# EAGLE library part MEMORY_3M_SD-RSMT-2-MQ (library MBHP_CORE_STM32F4v1.1.2)
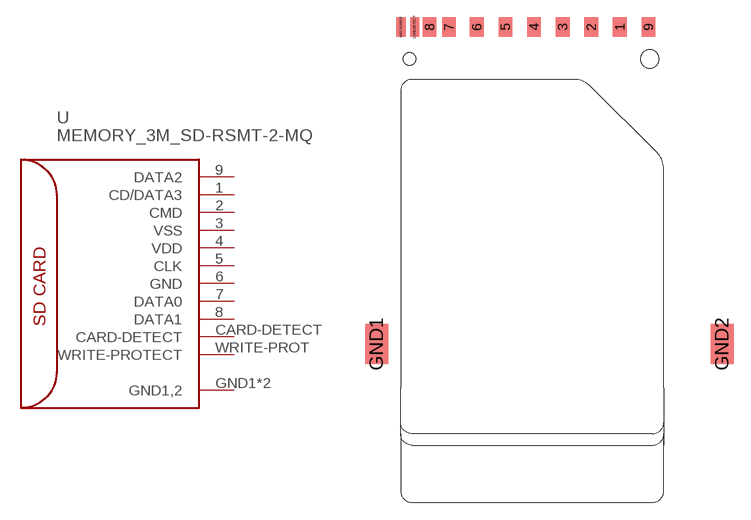
[diagram p5: symbol with the pads of MEMORY_3M_SD-RSMT-2-MQ; footprint MEMORY_3M_SD-RSMT-2-MQ]

Designator prefix -

## MEMORY_3M_SD-RSMT-2-MQ  [MEMORY_3M_SD-RSMT-2-MQ]
1  CD/DATA3
2  CMD
3  VSS
4  VDD
5  CLK
6  GND
7  DATA0
8  DATA1
9  DATA2
CARD-DETECT  CARD-DETECT
GND1  GND1,2
GND2  GND1,2
WRITE-PROT  WRITE-PROTECT

## Footprint MEMORY_3M_SD-RSMT-2-MQ (pad centres in mm)
smd 1.2 x 1.7: 1 22.16,31.6; 2 19.66,31.6; 3 17.16,31.6; 4 14.66,31.6; 5 12.16,31.6; 6 9.66,31.6; 7 7.23,31.6; 8 5.53,31.6; 9 24.66,31.6
smd 0.8 x 1.7: CARD-DETECT 4.23,31.6; WRITE-PROT 3.03,31.6
smd 2 x 3.5: GND1 0.9,3.85; GND2 31.1,3.85
hole 1.6 at 24.78,28.8
hole 1.1 at 3.78,28.8